# Altium schematic symbol library TLE5501.Schlib: 1 symbol
Pins are listed as number, name and electrical type; pins without a type are passive.

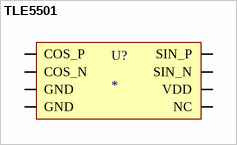
[diagram p0: symbol TLE5501]

## TLE5501
designator U?
TMR 360deg Magnetic Encoder; Manufacturer: Infineon Technologies; Manufacturer Part Number: TLE5501E0001XUMA1; Footprint: 8-SOIC; Package: PG-DSO-8-16; Supplier 1: Digi-Key; Supplier Part Number 1: TLE5501E0001XUMA1CT-ND
footprint 8-SOIC
pins: 1 COS_P, 2 COS_N, 3 GND, 4 GND, 5 NC, 6 VDD, 7 SIN_N, 8 SIN_P